# Altium schematic symbol library XL2515-TSS.SchLib: 1 symbol
Pins are listed as number, name and electrical type; pins without a type are passive.

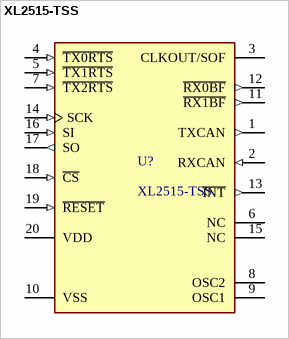
[diagram p0: symbol XL2515-TSS]

## XL2515-TSS
designator U?
IC CAN CTLR W/SPI 2.0B 20-QFN
pins: 1 TXCAN (out), 2 RXCAN (in), 3 CLKOUT/SOF, 4 ~{TX0RTS} (in), 5 ~{TX1RTS} (in), 6 NC, 7 ~{TX2RTS} (in), 8 OSC2, 9 OSC1, 10 VSS (power), 11 ~{RX1BF} (out), 12 ~{RX0BF} (out), 13 ~{INT} (out), 14 SCK (in), 15 NC, 16 SI (in), 17 SO (out), 18 ~{CS} (in), 19 ~{RESET} (in), 20 VDD (power)